# Altium footprint library MOLEX_0901310130.PcbLib: 1 footprints
Each footprint in its own frame and in the unit in brackets; x right, y up, seen from the top. Pads: shape width x height; smd on the part's side, far side on the other; paste and mask are expansions set on the pad; w line width, h text height; cw(c..) or ccw(c..) is an arc to the next point about the centre after c.
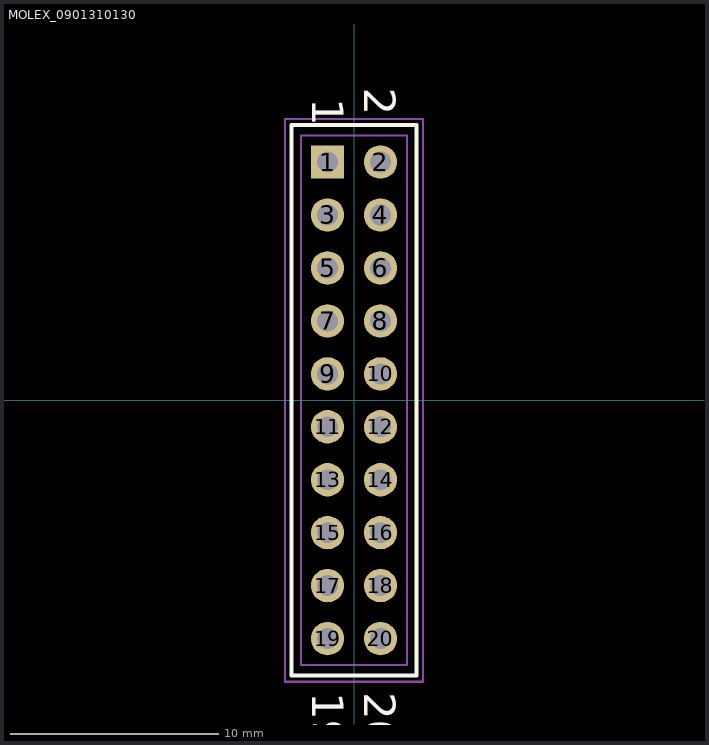
[diagram p0: the footprint, top view; thin cyan lines are the x and y axes]

## MOLEX_0901310130 [mm]
pads (20):
  rect 1.6x1.6 hole 1: 1(-1.27,11.43)
  round 1.6 hole 1: 2(1.27,11.43) 3(-1.27,8.89) 4(1.27,8.89) 5(-1.27,6.35) 6(1.27,6.35) 7(-1.27,3.81) 8(1.27,3.81) 9(-1.27,1.27) 10(1.27,1.27) 11(-1.27,-1.27) 12(1.27,-1.27) 13(-1.27,-3.81) 14(1.27,-3.81) 15(-1.27,-6.35) 16(1.27,-6.35) 17(-1.27,-8.89) 18(1.27,-8.89) 19(-1.27,-11.43) 20(1.27,-11.43)
Top Overlay:
  lines w0.2: -3,-13.2 -3,13.2 3,13.2 3,-13.2 -3,-13.2
  text "20" at 0.5,-14 h1.52
  text "19" at -2,-14 h1.52
  text "2" at 0.5,15 h1.52
  text "1" at -2,14.5 h1.52
Mechanical 13:
  lines w0.1: -2.54,-12.7 2.54,-12.7 2.54,12.7 -2.54,12.7 -2.54,-12.7
Mechanical 15:
  lines w0.1: -3.3,-13.5 3.3,-13.5 3.3,13.5 -3.3,13.5 -3.3,-13.5
3D body: height 9.25, standoff -2.3, extent -2.54,-12.7 2.54,12.7